# Altium schematic symbol library Oscillator.SchLib: 21 symbols
Pins are listed as number, name and electrical type; pins without a type are passive.

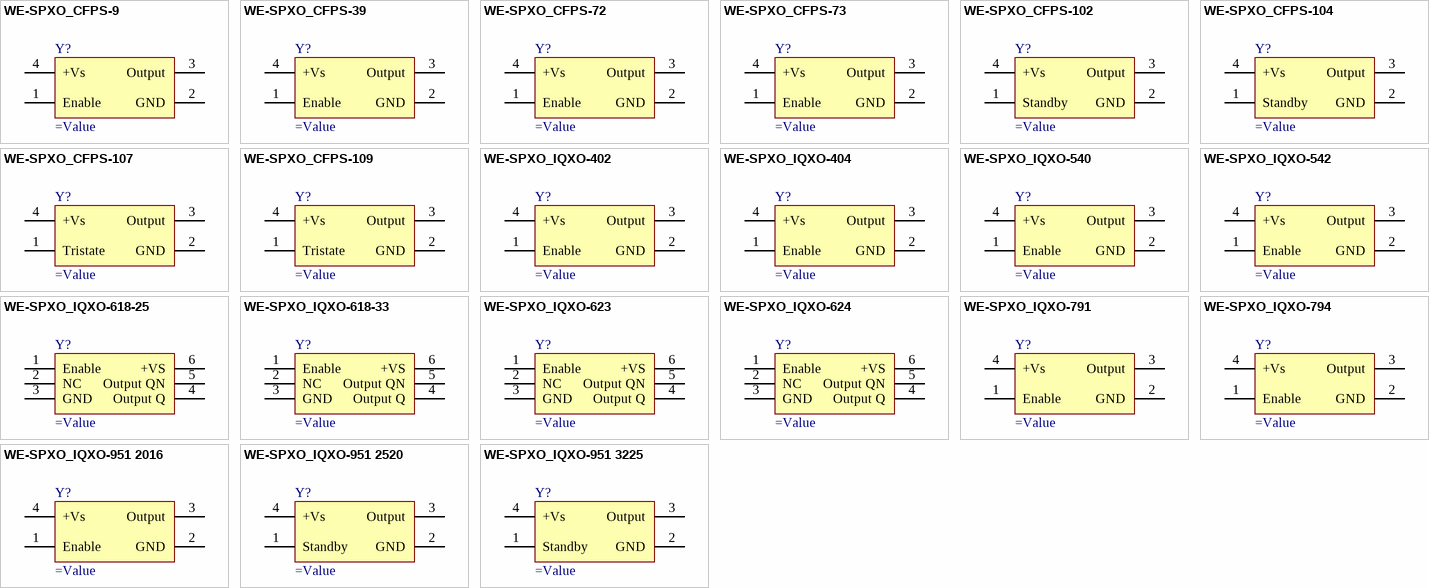
[diagram p0: symbols WE-SPXO_CFPS-9 to WE-SPXO_IQXO-951 3225]

## WE-SPXO_CFPS-9
designator Y?
pins: 1 Enable, 2 GND, 3 Output, 4 +Vs

## WE-SPXO_CFPS-39
designator Y?
pins: 1 Enable, 2 GND, 3 Output, 4 +Vs

## WE-SPXO_CFPS-72
designator Y?
pins: 1 Enable, 2 GND, 3 Output, 4 +Vs

## WE-SPXO_CFPS-73
designator Y?
pins: 1 Enable, 2 GND, 3 Output, 4 +Vs

## WE-SPXO_CFPS-102
designator Y?
pins: 1 Standby, 2 GND, 3 Output, 4 +Vs

## WE-SPXO_CFPS-104
designator Y?
pins: 1 Standby, 2 GND, 3 Output, 4 +Vs

## WE-SPXO_CFPS-107
designator Y?
pins: 1 Tristate, 2 GND, 3 Output, 4 +Vs

## WE-SPXO_CFPS-109
designator Y?
pins: 1 Tristate, 2 GND, 3 Output, 4 +Vs

## WE-SPXO_IQXO-402
designator Y?
pins: 1 Enable, 2 GND, 3 Output, 4 +Vs

## WE-SPXO_IQXO-404
designator Y?
pins: 1 Enable, 2 GND, 3 Output, 4 +Vs

## WE-SPXO_IQXO-540
designator Y?
pins: 1 Enable, 2 GND, 3 Output, 4 +Vs

## WE-SPXO_IQXO-542
designator Y?
pins: 1 Enable, 2 GND, 3 Output, 4 +Vs

## WE-SPXO_IQXO-618-25
designator Y?
pins: 1 Enable, 2 NC, 3 GND, 4 Output Q, 5 Output QN, 6 +VS

## WE-SPXO_IQXO-618-33
designator Y?
pins: 1 Enable, 2 NC, 3 GND, 4 Output Q, 5 Output QN, 6 +VS

## WE-SPXO_IQXO-623
designator Y?
pins: 1 Enable, 2 NC, 3 GND, 4 Output Q, 5 Output QN, 6 +VS

## WE-SPXO_IQXO-624
designator Y?
pins: 1 Enable, 2 NC, 3 GND, 4 Output Q, 5 Output QN, 6 +VS

## WE-SPXO_IQXO-791
designator Y?
pins: 1 Enable, 2 GND, 3 Output, 4 +Vs

## WE-SPXO_IQXO-794
designator Y?
pins: 1 Enable, 2 GND, 3 Output, 4 +Vs

## WE-SPXO_IQXO-951 2016
designator Y?
pins: 1 Enable, 2 GND, 3 Output, 4 +Vs

## WE-SPXO_IQXO-951 2520
designator Y?
pins: 1 Standby, 2 GND, 3 Output, 4 +Vs

## WE-SPXO_IQXO-951 3225
designator Y?
pins: 1 Standby, 2 GND, 3 Output, 4 +Vs